# Altium footprint library MOLEX_35362-0450.PcbLib: 1 footprints
Each footprint in its own frame and in the unit in brackets; x right, y up, seen from the top. Pads: shape width x height; smd on the part's side, far side on the other; paste and mask are expansions set on the pad; w line width, h text height; cw(c..) or ccw(c..) is an arc to the next point about the centre after c.
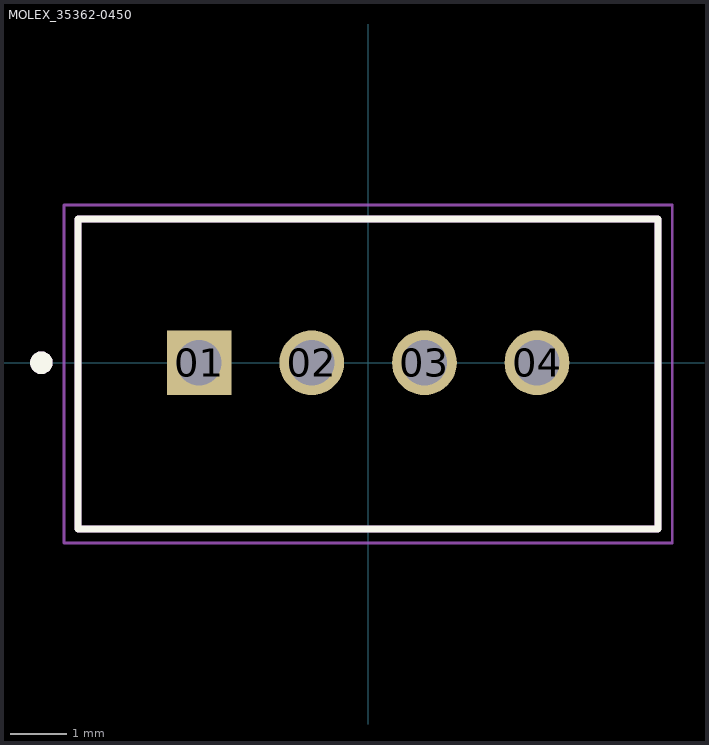
[diagram p0: the footprint, top view; thin cyan lines are the x and y axes]

## MOLEX_35362-0450 [mm]
pads (4):
  rect 1.15x1.15 / inner round 1.15 / far side rect 1.15x1.15 hole 0.8: 01(-3,0)
  round 1.15 hole 0.8: 02(-1,0) 03(1,0) 04(3,0)
Top Overlay:
  circle w0.2: c-5.8,0 r0.1
  lines w0.127: -5.15,-2.95 -5.15,2.55 5.15,2.55 5.15,-2.95 -5.15,-2.95
Mechanical 13:
  circle w0.2: c-5.8,0 r0.1
  lines w0.127: -5.15,-2.95 -5.15,2.55 5.15,2.55 5.15,-2.95 -5.15,-2.95
Mechanical 15:
  lines w0.05: -5.4,-3.2 -5.4,2.8 5.4,2.8 5.4,-3.2 -5.4,-3.2